# EAGLE library part ATMEGA328P-AU (library ATMEGA328P-AU)
ATmega Series 20 MHz 32 KB Flash 2 KB SRAM 8-Bit Microcontroller - TQFP-32 Check availability <https://pricing.snapeda.com/parts/ATMEGA328P-AU/Microchip%20Technology/view-part?ref=eda>
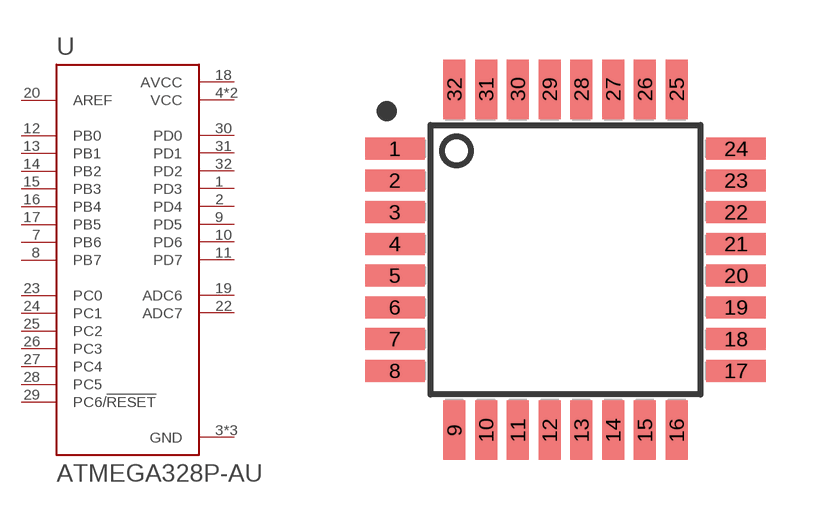
[diagram p0: symbol with the pads of QFP80P900X900X120-32N; footprint QFP80P900X900X120-32N]

Designator prefix U

## ATMEGA328P-AU (Availability: In Stock; Description: AVR AVR® ATmega Microcontroller IC 8-Bit 20MHz 32KB (16K x 16) FLASH 32-TQFP (7x7); MF: Microchip Technology; MP: ATMEGA328P-AU; Package: TQFP-32 Microchip; Price: None; Purchase-URL: https://pricing.snapeda.com/search/part/ATMEGA328P-AU/?ref=eda)  [QFP80P900X900X120-32N]
1  PD3
2  PD4
3  GND  pwr
4  VCC  pwr
5  GND  pwr
6  VCC  pwr
7  PB6
8  PB7
9  PD5
10  PD6
11  PD7
12  PB0
13  PB1
14  PB2
15  PB3
16  PB4
17  PB5
18  AVCC  pwr
19  ADC6
20  AREF  in
21  GND  pwr
22  ADC7
23  PC0
24  PC1
25  PC2
26  PC3
27  PC4
28  PC5
29  PC6/!RESET
30  PD0
31  PD1
32  PD2

## Footprint QFP80P900X900X120-32N (pad centres in mm)
smd 1.5 x 0.55: 1 -4.3,2.8; 2 -4.3,2; 3 -4.3,1.2; 4 -4.3,0.4; 5 -4.3,-0.4; 6 -4.3,-1.2; 7 -4.3,-2; 8 -4.3,-2.8; 17 4.3,-2.8; 18 4.3,-2; 19 4.3,-1.2; 20 4.3,-0.4; 21 4.3,0.4; 22 4.3,1.2; 23 4.3,2; 24 4.3,2.8
smd 0.55 x 1.5: 9 -2.8,-4.3; 10 -2,-4.3; 11 -1.2,-4.3; 12 -0.4,-4.3; 13 0.4,-4.3; 14 1.2,-4.3; 15 2,-4.3; 16 2.8,-4.3; 25 2.8,4.3; 26 2,4.3; 27 1.2,4.3; 28 0.4,4.3; 29 -0.4,4.3; 30 -1.2,4.3; 31 -2,4.3; 32 -2.8,4.3